# EAGLE library part LTC6911CMS-1TRPBF (library NIPCB)
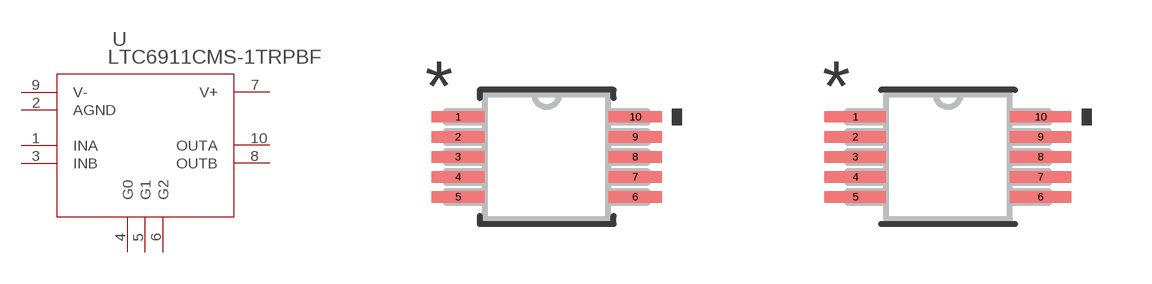
[diagram p2: symbol with the pads of MSOP-10_MS_LIT; footprints MSOP-10_MS_LIT, MSOP-10_MS_LIT-M]

Designator prefix U

## LTC6911CMS-1TRPBFMSOP-10_MS_LIT (COPYRIGHT: Copyright (C) 2024 Ultra Librarian. All rights reserved.; MANUFACTURER_PART_NUMBER: LTC6911CMS-1#TRPBF; MFR_NAME: Analog Devices Inc)  [MSOP-10_MS_LIT]
1  INA  in
2  AGND  pwr
3  INB  in
4  G0  in
5  G1  in
6  G2  in
7  V+  pwr
8  OUTB  out
9  V-  pwr
10  OUTA  out

## LTC6911CMS-1TRPBFMSOP-10_MS_LIT-M (COPYRIGHT: Copyright (C) 2024 Ultra Librarian. All rights reserved.; MANUFACTURER_PART_NUMBER: LTC6911CMS-1#TRPBF; MFR_NAME: Analog Devices Inc)  [MSOP-10_MS_LIT-M]
Pads as for MSOP-10_MS_LIT

## LTC6911CMS-1TRPBFMSOP-10_MS_LIT-L (COPYRIGHT: Copyright (C) 2024 Ultra Librarian. All rights reserved.; MANUFACTURER_PART_NUMBER: LTC6911CMS-1#TRPBF; MFR_NAME: Analog Devices Inc)  [MSOP-10_MS_LIT-L]
Pads as for MSOP-10_MS_LIT

## Footprint MSOP-10_MS_LIT (pad centres in mm)
smd 1.333 x 0.279: 1 -2.216,1.001; 2 -2.216,0.5; 3 -2.216,0; 4 -2.216,-0.5; 5 -2.216,-1.001; 6 2.216,-1.001; 7 2.216,-0.5; 8 2.216,0; 9 2.216,0.5; 10 2.216,1.001

## Footprint MSOP-10_MS_LIT-M (pad centres in mm)
smd 1.537 x 0.279: 1 -2.318,1.001; 2 -2.318,0.5; 3 -2.318,0; 4 -2.318,-0.5; 5 -2.318,-1.001; 6 2.318,-1.001; 7 2.318,-0.5; 8 2.318,0; 9 2.318,0.5; 10 2.318,1.001

## Footprint MSOP-10_MS_LIT-L (pad centres in mm)
smd 1.092 x 0.229: 1 -2.134,1.001; 2 -2.134,0.5; 3 -2.134,0; 4 -2.134,-0.5; 5 -2.134,-1.001; 6 2.134,-1.001; 7 2.134,-0.5; 8 2.134,0; 9 2.134,0.5; 10 2.134,1.001